# EAGLE library part NE555S-13DICT-ND (library CP-IC)
555 Timer
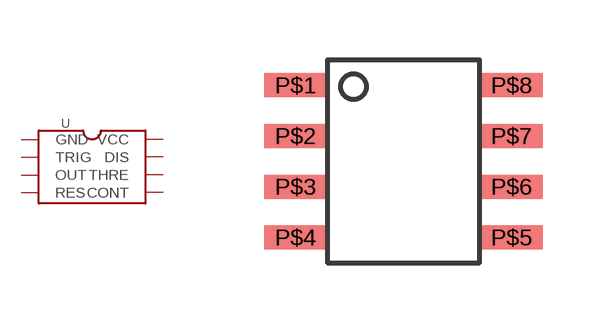
[diagram p1: symbol with the pads of SO-8; footprint SO-8]

Designator prefix U

## NE555S-13DICT-ND  [SO-8]
P$1  GND
P$2  TRIG
P$3  OUT
P$4  RES
P$5  CONT
P$6  THRE
P$7  DIS
P$8  VCC

## Footprint SO-8 (pad centres in mm)
smd 1.55 x 0.6: P$1 -2.7,1.905; P$2 -2.7,0.635; P$3 -2.7,-0.635; P$4 -2.7,-1.905; P$5 2.7,-1.905; P$6 2.7,-0.635; P$7 2.7,0.635; P$8 2.7,1.905